# Altium footprint library CONSMA001-SMD-G.PcbLib: 2 footprints
Each footprint in its own frame and in the unit in brackets; x right, y up, seen from the top. Pads: shape width x height; smd on the part's side, far side on the other; paste and mask are expansions set on the pad; w line width, h text height; cw(c..) or ccw(c..) is an arc to the next point about the centre after c.
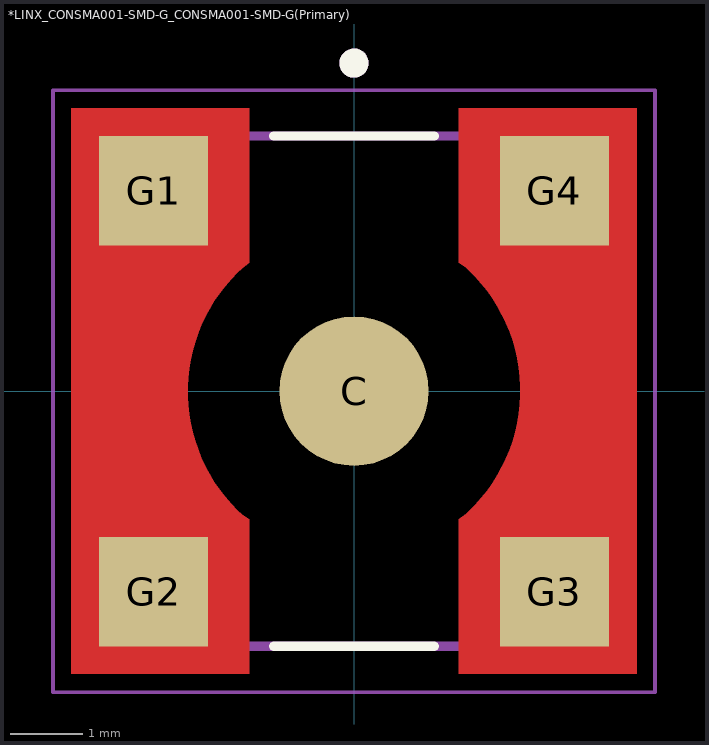
[diagram p0: the footprints below, top view; thin cyan lines are the x and y axes]

## *LINX_CONSMA001-SMD-G_CONSMA001-SMD-G(Primary) [mm]
pads (5):
  round 2.05 smd: C(0,0)
  rect 1.5x1.5 smd: G1(-2.75,2.75) G2(-2.75,-2.75) G3(2.75,-2.75) G4(2.75,2.75)
Top Layer:
  region: 1.44,-3.88 1.44,-1.76 1.54,-1.68 1.573,-1.651 1.663,-1.56 1.747,-1.465 1.827,-1.365 1.9,-1.26 1.968,-1.152 2.029,-1.04 2.085,-0.925 2.133,-0.807 2.175,-0.686 2.21,-0.564 2.239,-0.439 2.26,-0.313 2.274,-0.186 2.281,-0.059 2.281,0.069 2.274,0.196 2.26,0.323 2.239,0.449 2.21,0.574 2.175,0.696 2.133,0.817 2.085,0.935 2.029,1.05 1.968,1.162 1.9,1.27 1.827,1.375 1.747,1.475 1.663,1.57 1.573,1.661 1.54,1.69 1.44,1.76 1.44,3.88 3.88,3.88 3.88,-3.88
  region: -1.44,3.88 -1.44,1.76 -1.54,1.68 -1.6,1.624 -1.687,1.534 -1.769,1.439 -1.845,1.34 -1.916,1.237 -1.981,1.13 -2.04,1.02 -2.093,0.907 -2.139,0.791 -2.18,0.672 -2.213,0.552 -2.241,0.43 -2.261,0.307 -2.275,0.182 -2.281,0.058 -2.281,-0.067 -2.275,-0.192 -2.261,-0.317 -2.241,-0.44 -2.213,-0.562 -2.18,-0.682 -2.139,-0.801 -2.093,-0.917 -2.04,-1.03 -1.981,-1.14 -1.916,-1.247 -1.845,-1.35 -1.769,-1.449 -1.687,-1.544 -1.6,-1.634 -1.54,-1.69 -1.44,-1.76 -1.44,-3.88 -3.88,-3.88 -3.88,3.88
Top Overlay:
  circle w0.2: c0,4.5 r0.1
  lines w0.127: -1.1,-3.5 1.1,-3.5 ; -1.1,3.5 1.1,3.5
Mechanical 13:
  circle w0.2: c0,4.5 r0.1
  circle w0.2: c0,4.5 r0.1
  lines w0.127: -3.5,-3.5 -3.5,3.5 ; -3.5,-3.5 3.5,-3.5 ; -3.5,-3.5 -3.5,3.5 ; -3.5,-3.5 3.5,-3.5 ; -3.5,3.5 3.5,3.5 ; -3.5,3.5 3.5,3.5 ; 3.5,-3.5 3.5,3.5 ; 3.5,-3.5 3.5,3.5
Mechanical 15:
  lines w0.05: -4.13,-4.13 4.13,-4.13 4.13,4.13 -4.13,4.13 -4.13,-4.13

## PCBComponent_1 [mm]